# Altium footprint library CN_SAMTEC_ESQ-103-14-G-D.PcbLib: 1 footprints
Each footprint in its own frame and in the unit in brackets; x right, y up, seen from the top. Pads: shape width x height; smd on the part's side, far side on the other; paste and mask are expansions set on the pad; w line width, h text height; cw(c..) or ccw(c..) is an arc to the next point about the centre after c.
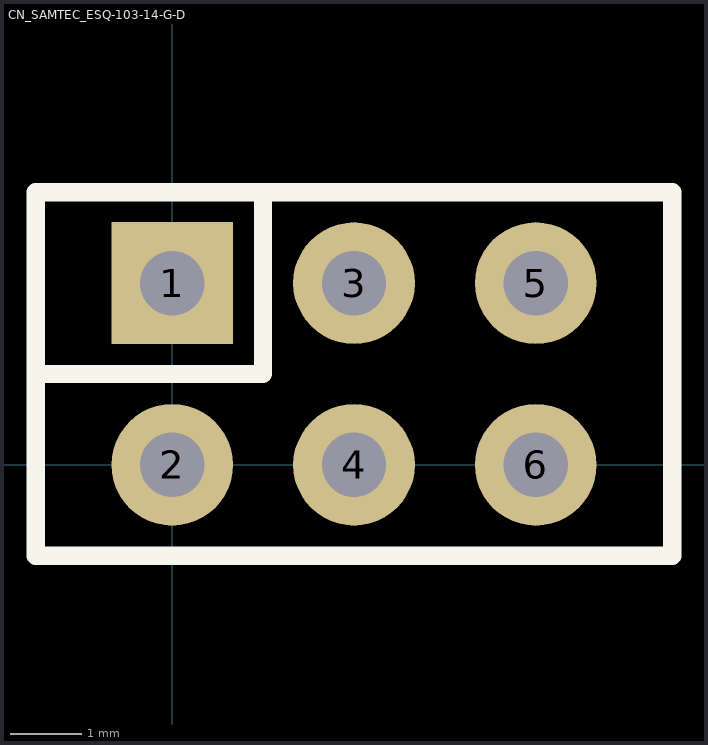
[diagram p0: the footprint, top view; thin cyan lines are the x and y axes]

## CN_SAMTEC_ESQ-103-14-G-D [mm] "ESQ-106-14-G-D"
pads (6):
  rect 1.7x1.7 hole 0.9: 1(0,2.54)
  round 1.7 hole 0.9: 2(0,0) 3(2.54,2.54) 4(2.54,0) 5(5.08,2.54) 6(5.08,0)
Top Overlay:
  lines w0.254: -1.905,1.27 1.27,1.27 1.27,3.81 ; -1.905,-1.27 -1.905,3.81 6.985,3.81 6.985,-1.27 -1.905,-1.27
3D body: height 11.05, standoff -12.19, extent -1.524,-1.27 6.604,3.81